# Altium schematic symbol library cap 10uh.SchLib: 2 symbols
Pins are listed as number, name and electrical type; pins without a type are passive.

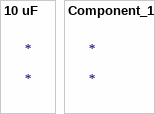
[diagram p0: symbols 10 uF to Component_1]

## 10 uF
designator *
1 alternate drawing of the same symbol

## Component_1
designator *
footprint CAP 10 uF (Chip Capacitor, 2-Leads, Body 0.90x0.48mm, IPC Medium Density)